# Altium schematic symbol library SCH - DIODES - Schottky A-C.Schlib: 1 symbol
Pins are listed as number, name and electrical type; pins without a type are passive.

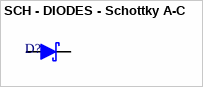
[diagram p0: symbol SCH - DIODES - Schottky A-C]

## SCH - DIODES - Schottky A-C
designator D?
footprint SOD-323
pins: A, C